# EAGLE library part AD8606ARZ (library AD8606ARZ)
AD8606ARZ, Dual Operational Amplifier 10MHz CMOS, R-R, 3, 5V, 8-Pin SOIC Source: Datasheet <http://www.analog.com/static/imported-files/data_sheets/AD8605_8606_8608.pdf>
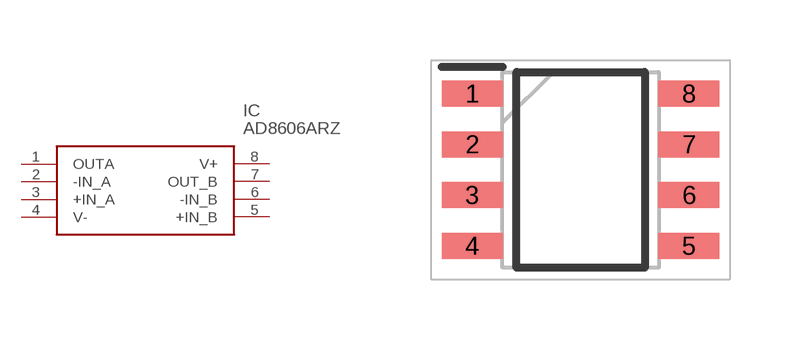
[diagram p0: symbol with the pads of SOIC127P600X175-8N; footprint SOIC127P600X175-8N]

Designator prefix IC

## AD8606ARZ (Description: AD8606ARZ, Dual Operational Amplifier 10MHz CMOS, R-R, 3, 5V, 8-Pin SOIC; Height: 1.75mm; Manufacturer_Name: Analog Devices; Manufacturer_Part_Number: AD8606ARZ; Mouser_Part_Number: 584-AD8606ARZ; Mouser_Price-Stock: https://www.mouser.co.uk/ProductDetail/Analog-Devices/AD8606ARZ?qs=%2FtpEQrCGXCweytGQ8kTWAg%3D%3D)  [SOIC127P600X175-8N]
1  OUTA
2  -IN_A
3  +IN_A
4  V-
5  +IN_B
6  -IN_B
7  OUT_B
8  V+

## Footprint SOIC127P600X175-8N (pad centres in mm)
- [SOIC_N]-
smd 1.525 x 0.65: 1 -2.712,1.905; 2 -2.712,0.635; 3 -2.712,-0.635; 4 -2.712,-1.905; 5 2.712,-1.905; 6 2.712,-0.635; 7 2.712,0.635; 8 2.712,1.905